# Altium schematic symbol library Mach Master.SCHLIB: 42 symbols
Pins are listed as number, name and electrical type; pins without a type are passive.

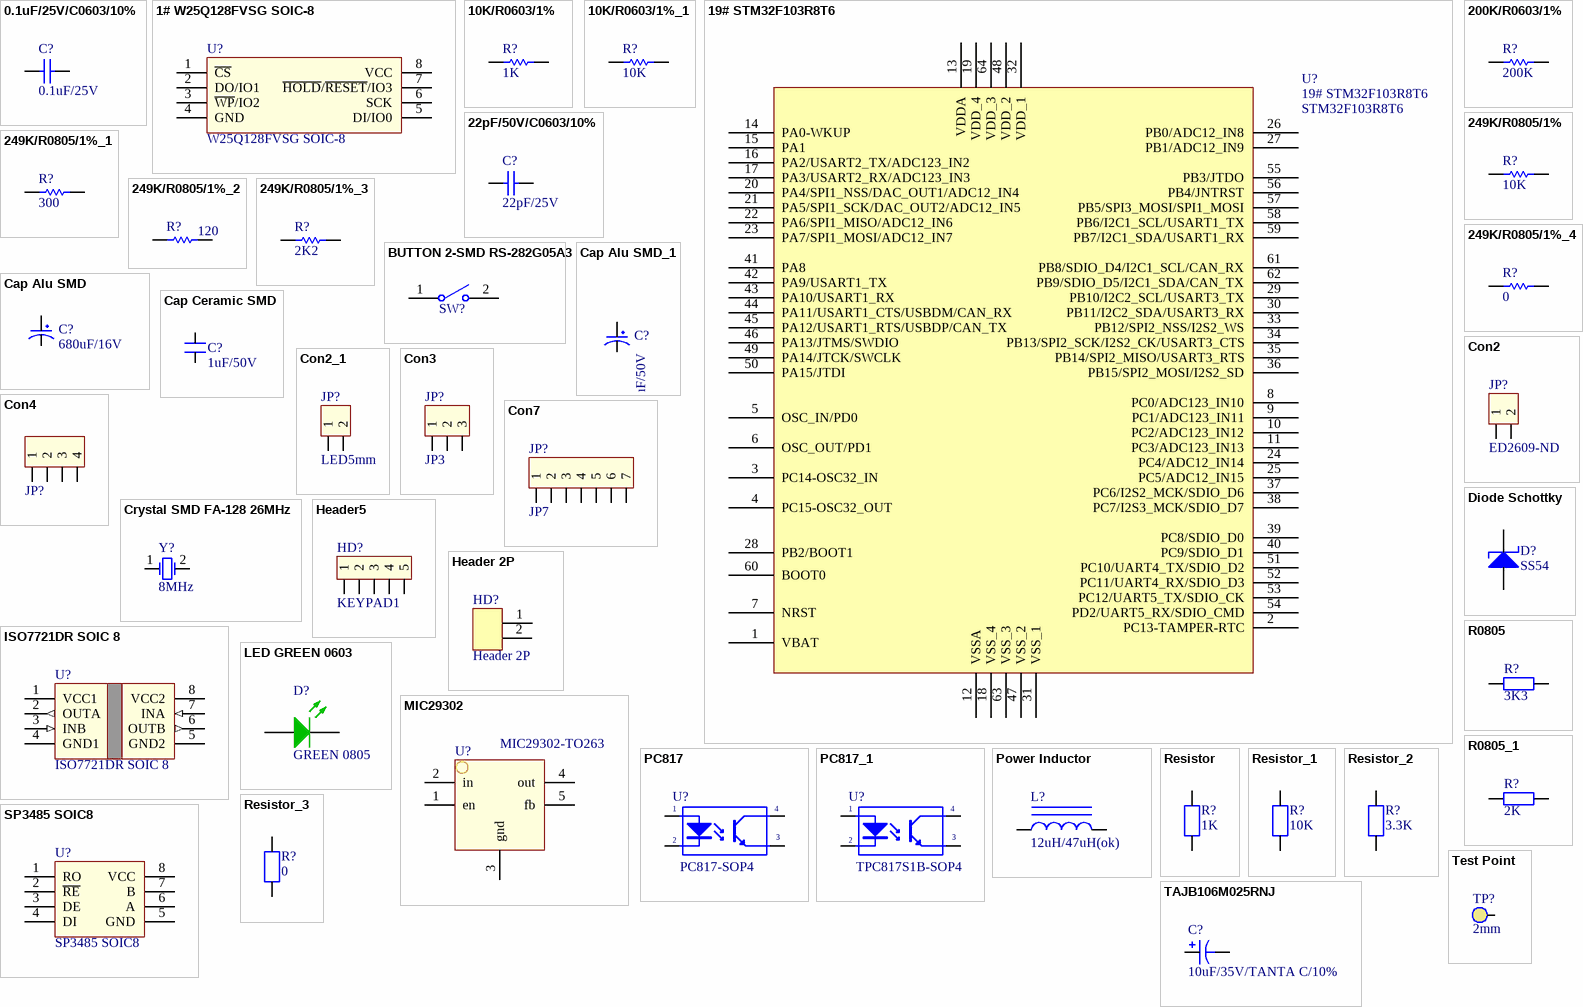
[diagram p0: symbols 0.1uF/25V/C0603/10% to Test Point]

## 0.1uF/25V/C0603/10%
designator C?, comment 0.1uF/25V
CAP CER 0.1UF 25V 10% X7R 0603; Manufacturer: Murata Electronics North America; Manufacturer Part Number: GRM188R71E104KA01D; Capacitance: 0.1µF; RoHS: RoHS Compliant; Category: Capacitors; Packaging: Cut Tape (CT); Tolerance: ±10%; Voltage - Rated: 25V; Temperature Coefficient: X7R; Mounting Type: Surface Mount, MLCC; Operating Temperature: -55°C ~ 125°C; Applications: General Purpose; Ratings: -; Package / Case: 0603 (1608 Metric); Size / Dimension: 0.063" L x 0.031" W (1.60mm x 0.80mm); Height - Seated (Max): -; Thickness (Max): 0.035" (0.90mm); Lead Spacing: -; Features: -; Lead Style: -; ComponentLink1URL: http://www.murata.com/~/media/webrenewal/support/library/catalog/products/capacitor/mlcc/c02e.ashx; ComponentLink1Description: http://www.murata.com/~/media/webrenewal/support/library/catalog/products/capacitor/mlcc/c02e.ashx; Supplier 1: Digi-Key; Supplier Part Number 1: 490-1524-1-ND
footprint Cap Ceramic 0805 SMD (Reflow Soldering)
pins: 1, 2

## 1# W25Q128FVSG SOIC-8
designator U?, comment W25Q128FVSG SOIC-8
footprint 1# W25Q128FV - 8SOIC 5.38mm (8-Pin SOIC 208 mil)
pins: 1 ~{CS}, 2 DO/IO1, 3 ~{WP}/IO2, 4 GND, 5 DI/IO0, 6 SCK, 7 ~{HOLD}/~{RESET}/IO3, 8 VCC

## 10K/R0603/1%
designator R?, comment 1K
1 kOhms ±1% 0.125W, 1/8W Chip Resistor 0805 (2012 Metric) Automotive AEC-Q200 Thick Film; Resistance (Ohms): 10k; Power (Watts): 0.1W, 1/10W; RoHS: RoHS Compliant; Category: Resistors; Features: Moisture Resistant; Operating Temperature: -55°C ~ 155°C; Package / Case: 0603 (1608 Metric); Supplier Device Package: 0603; Size / Dimension: 0.063" L x 0.031" W (1.60mm x 0.80mm); Height: 0.022" (0.55mm); Number of Terminations: 2; ComponentLink1URL: http://www.yageo.com/NewPortal/yageodocoutput?fileName=/pdf/R-Chip/PYu-RC_Group_51_RoHS_L_3.pdf; ComponentLink1Description: http://www.yageo.com/NewPortal/yageodocoutput?fileName=/pdf/R-Chip/PYu-RC_Group_51_RoHS_L_3.pdf; Digikey: 541-1.00KCCT-ND; Buy Link: https://www.thegioiic.com/products?utf8=%E2%9C%93&search=%C4%91i%E1%BB%87n+tr%E1%BB%9F+0805
footprint Res 0805 SMD (Reflow Soldering)
pins: 1, 2

## 10K/R0603/1%_1
designator R?, comment 10K
RES SMD 10K OHM 1% 1/10W 0603; Manufacturer: Yageo; Manufacturer Part Number: RC0603FR-0710KL; Power (Watts): 0.1W, 1/10W; Temperature Coefficient: ±100ppm/°C; Supplier 1: Digi-Key; RoHS: RoHS Compliant; Category: Resistors; Stock 1: 11440000; Pricing 1: 5000=0.00167, 10000=0.00145, 25000=0.00128, 50000=0.00117, 125000=0.00115 (USD); Packaging: Tape & Reel (TR); Resistance (Ohms): 10k; Tolerance: ±1%; Composition: Thick Film; Features: Moisture Resistant; Operating Temperature: -55°C ~ 155°C; Package / Case: 0603 (1608 Metric); Supplier Device Package: 0603; Size / Dimension: 0.063" L x 0.031" W (1.60mm x 0.80mm); Height: 0.022" (0.55mm); Number of Terminations: 2; ComponentLink1URL: http://www.yageo.com/NewPortal/yageodocoutput?fileName=/pdf/R-Chip/PYu-RC_Group_51_RoHS_L_3.pdf; ComponentLink1Description: http://www.yageo.com/NewPortal/yageodocoutput?fileName=/pdf/R-Chip/PYu-RC_Group_51_RoHS_L_3.pdf; Supplier Part Number 1: 311-10.0KHRTR-ND; Buy Link: https://www.thegioiic.com/products?utf8=%E2%9C%93&search=%C4%91i%E1%BB%87n+tr%E1%BB%9F+0805
footprint Res 0603 SMD (Reflow Soldering)
footprint Res 0805 SMD (Reflow Soldering)
pins: 1, 2

## 19# STM32F103R8T6
designator U?  Supplier Part Number 1: STM32F103R8T6
STM32 ARM-based 32-bit MCU with ARM 32-bit Cortex-M3 Microcontroller, 64 Kbytes Flash, 64-pin LQFP, Industrial Temperature; UART: 5; I2C: 2; SPI/I2S: 3; USB 2.0: 1; ARM Core: Cortex M3; Published: 30-May-2008; DatasheetVersion: rev6, Mar-2008; PackageVersion: Mar-2008; PackageReference: LQFP64; Publisher: Altium Limited; PackageDescription: 64-Pin Low-Profile Quad Flat Pack, 10 x 10 mm Body, 0.5 mm Pitch (LQFP64); ComponentLink1Description: Manufacturer Link; ComponentLink1URL: www.st.com/stm32; ComponentLink2Description: Datasheet; ComponentLink2URL: http://www.st.com/stonline/products/literature/ds/13587.pdf; CAN 2.0: 1; ADC: 3; DAC: 2; Case/Package: LQFP - 64; Supplier 1: Future Electronics; Buy Link: https://thegioiic.com/products/stm32f103r8t6
footprint 19# STMF103R8T6 (LQFP64 – 10 x 10 mm 64 pin)
pins: 1 VBAT (power), 2 PC13-TAMPER-RTC, 3 PC14-OSC32_IN, 4 PC15-OSC32_OUT, 5 OSC_IN/PD0, 6 OSC_OUT/PD1, 7 NRST, 8 PC0/ADC123_IN10, 9 PC1/ADC123_IN11, 10 PC2/ADC123_IN12, 11 PC3/ADC123_IN13, 12 VSSA (power), 13 VDDA (power), 14 PA0-WKUP, 15 PA1, 16 PA2/USART2_TX/ADC123_IN2, 17 PA3/USART2_RX/ADC123_IN3, 18 VSS_4 (power), 19 VDD_4 (power), 20 PA4/SPI1_NSS/DAC_OUT1/ADC12_IN4, 21 PA5/SPI1_SCK/DAC_OUT2/ADC12_IN5, 22 PA6/SPI1_MISO/ADC12_IN6, 23 PA7/SPI1_MOSI/ADC12_IN7, 24 PC4/ADC12_IN14, 25 PC5/ADC12_IN15, 26 PB0/ADC12_IN8, 27 PB1/ADC12_IN9, 28 PB2/BOOT1, 29 PB10/I2C2_SCL/USART3_TX, 30 PB11/I2C2_SDA/USART3_RX, 31 VSS_1 (power), 32 VDD_1 (power), 33 PB12/SPI2_NSS/I2S2_WS, 34 PB13/SPI2_SCK/I2S2_CK/USART3_CTS, 35 PB14/SPI2_MISO/USART3_RTS, 36 PB15/SPI2_MOSI/I2S2_SD, 37 PC6/I2S2_MCK/SDIO_D6, 38 PC7/I2S3_MCK/SDIO_D7, 39 PC8/SDIO_D0, 40 PC9/SDIO_D1, 41 PA8, 42 PA9/USART1_TX, 43 PA10/USART1_RX, 44 PA11/USART1_CTS/USBDM/CAN_RX, 45 PA12/USART1_RTS/USBDP/CAN_TX, 46 PA13/JTMS/SWDIO, 47 VSS_2 (power), 48 VDD_2 (power), 49 PA14/JTCK/SWCLK, 50 PA15/JTDI, 51 PC10/UART4_TX/SDIO_D2, 52 PC11/UART4_RX/SDIO_D3, 53 PC12/UART5_TX/SDIO_CK, 54 PD2/UART5_RX/SDIO_CMD, 55 PB3/JTDO, 56 PB4/JNTRST, 57 PB5/SPI3_MOSI/SPI1_MOSI, 58 PB6/I2C1_SCL/USART1_TX, 59 PB7/I2C1_SDA/USART1_RX, 60 BOOT0, 61 PB8/SDIO_D4/I2C1_SCL/CAN_RX, 62 PB9/SDIO_D5/I2C1_SDA/CAN_TX, 63 VSS_3 (power), 64 VDD_3 (power)

## 22pF/50V/C0603/10%
designator C?, comment 22pF/25V
CAP CER 22PF 50V NP0 0603; Manufacturer: Kemet; Manufacturer Part Number: C0603C220K5GACTU; Tolerance: ±10%; Temperature Coefficient: C0G, NP0; RoHS: RoHS Compliant; Category: Capacitors; Packaging: Digi-Reel®; Capacitance: 22pF; Voltage - Rated: 50V; Mounting Type: Surface Mount, MLCC; Operating Temperature: -55°C ~ 125°C; Applications: General Purpose; Ratings: -; Package / Case: 0603 (1608 Metric); Size / Dimension: 0.063" L x 0.031" W (1.60mm x 0.80mm); Height - Seated (Max): -; Thickness (Max): 0.034" (0.87mm); Lead Spacing: -; Features: -; Lead Style: -; ComponentLink1URL: http://www.kemet.com/docfinder?Partnumber=C0603C220K5GACTU; ComponentLink1Description: http://www.kemet.com/docfinder?Partnumber=C0603C220K5GACTU; Supplier 1: Digi-Key; Supplier Part Number 1: 399-7875-1-ND
footprint Cap Ceramic 0805 SMD (Reflow Soldering)
pins: 1, 2

## 200K/R0603/1%
designator R?, comment 200K
RES SMD 200K OHM 1% 1/10W 0603; Manufacturer: Yageo; Manufacturer Part Number: RC0603FR-07200KL; Power (Watts): 0.1W, 1/10W; Temperature Coefficient: ±100ppm/°C; Supplier 1: Digi-Key; RoHS: RoHS Compliant; Category: Resistors; Stock 1: 924437; Pricing 1: 1=0.1, 10=0.015, 100=0.006, 1000=0.00268, 2500=0.00233 (USD); Packaging: Cut Tape (CT); Part Status: Active; Tolerance: ±1%; Composition: Thick Film; Features: Moisture Resistant; Operating Temperature: -55°C ~ 155°C; Package / Case: 0603 (1608 Metric); Supplier Device Package: 0603; Size / Dimension: 0.063" L x 0.031" W (1.60mm x 0.80mm); Height - Seated (Max): 0.022" (0.55mm); Failure Rate: -; ComponentLink1URL: http://www.yageo.com/documents/recent/PYu-RC_Group_51_RoHS_L_7.pdf; ComponentLink1Description: http://www.yageo.com/documents/recent/PYu-RC_Group_51_RoHS_L_7.pdf; Supplier Part Number 1: 311-200KHRCT-ND
footprint Res 0805 SMD (Reflow Soldering)
pins: 1, 2

## 249K/R0805/1%
designator R?, comment 10K
RES SMD 249K OHM 1% 1/10W 0805; Manufacturer: Yageo; Manufacturer Part Number: RC0603FR-07249KL; Power (Watts): 0.1W, 1/10W; Temperature Coefficient: ±100ppm/°C; Supplier 1: Digi-Key; RoHS: RoHS Compliant; Category: Resistors; Stock 1: 370515; Pricing 1: 1=0.1, 10=0.015, 100=0.006, 1000=0.00268, 2500=0.00233 (USD); Packaging: Cut Tape (CT); Part Status: Active; Tolerance: ±1%; Composition: Thick Film; Features: Moisture Resistant; Operating Temperature: -55°C ~ 155°C; Package / Case: 0603 (1608 Metric); Supplier Device Package: 0603; Size / Dimension: 0.063" L x 0.032" W (1.60mm x 0.80mm); Height - Seated (Max): 0.022" (0.55mm); Failure Rate: -; ComponentLink1URL: http://www.yageo.com/documents/recent/PYu-RC_Group_51_RoHS_L_8.pdf; ComponentLink1Description: http://www.yageo.com/documents/recent/PYu-RC_Group_51_RoHS_L_8.pdf; Buy Link: https://www.thegioiic.com/products?utf8=%E2%9C%93&search=%C4%91i%E1%BB%87n+tr%E1%BB%9F+0805
footprint Res 0805 SMD (Reflow Soldering)
pins: 1, 2

## 249K/R0805/1%_1
designator R?, comment 300
RES SMD 249K OHM 1% 1/10W 0805; Manufacturer: Yageo; Manufacturer Part Number: RC0603FR-07249KL; Power (Watts): 0.1W, 1/10W; Temperature Coefficient: ±100ppm/°C; Supplier 1: Digi-Key; RoHS: RoHS Compliant; Category: Resistors; Stock 1: 370515; Pricing 1: 1=0.1, 10=0.015, 100=0.006, 1000=0.00268, 2500=0.00233 (USD); Packaging: Cut Tape (CT); Part Status: Active; Tolerance: ±1%; Composition: Thick Film; Features: Moisture Resistant; Operating Temperature: -55°C ~ 155°C; Package / Case: 0603 (1608 Metric); Supplier Device Package: 0603; Size / Dimension: 0.063" L x 0.032" W (1.60mm x 0.80mm); Height - Seated (Max): 0.022" (0.55mm); Failure Rate: -; ComponentLink1URL: http://www.yageo.com/documents/recent/PYu-RC_Group_51_RoHS_L_8.pdf; ComponentLink1Description: http://www.yageo.com/documents/recent/PYu-RC_Group_51_RoHS_L_8.pdf
footprint Res 0805 SMD (Reflow Soldering)
pins: 1, 2

## 249K/R0805/1%_2
designator R?, comment 120
RES SMD 249K OHM 1% 1/10W 0805; Manufacturer: Yageo; Manufacturer Part Number: RC0603FR-07249KL; Power (Watts): 0.1W, 1/10W; Temperature Coefficient: ±100ppm/°C; Supplier 1: Digi-Key; RoHS: RoHS Compliant; Category: Resistors; Stock 1: 370515; Pricing 1: 1=0.1, 10=0.015, 100=0.006, 1000=0.00268, 2500=0.00233 (USD); Packaging: Cut Tape (CT); Part Status: Active; Tolerance: ±1%; Composition: Thick Film; Features: Moisture Resistant; Operating Temperature: -55°C ~ 155°C; Package / Case: 0603 (1608 Metric); Supplier Device Package: 0603; Size / Dimension: 0.063" L x 0.032" W (1.60mm x 0.80mm); Height - Seated (Max): 0.022" (0.55mm); Failure Rate: -; ComponentLink1URL: http://www.yageo.com/documents/recent/PYu-RC_Group_51_RoHS_L_8.pdf; ComponentLink1Description: http://www.yageo.com/documents/recent/PYu-RC_Group_51_RoHS_L_8.pdf
footprint Res 0805 SMD (Reflow Soldering)
pins: 1, 2

## 249K/R0805/1%_3
designator R?, comment 2K2
RES SMD 249K OHM 1% 1/10W 0805; Manufacturer: Yageo; Manufacturer Part Number: RC0603FR-07249KL; Power (Watts): 0.1W, 1/10W; Temperature Coefficient: ±100ppm/°C; Supplier 1: Digi-Key; RoHS: RoHS Compliant; Category: Resistors; Stock 1: 370515; Pricing 1: 1=0.1, 10=0.015, 100=0.006, 1000=0.00268, 2500=0.00233 (USD); Packaging: Cut Tape (CT); Part Status: Active; Tolerance: ±1%; Composition: Thick Film; Features: Moisture Resistant; Operating Temperature: -55°C ~ 155°C; Package / Case: 0603 (1608 Metric); Supplier Device Package: 0603; Size / Dimension: 0.063" L x 0.032" W (1.60mm x 0.80mm); Height - Seated (Max): 0.022" (0.55mm); Failure Rate: -; ComponentLink1URL: http://www.yageo.com/documents/recent/PYu-RC_Group_51_RoHS_L_8.pdf; ComponentLink1Description: http://www.yageo.com/documents/recent/PYu-RC_Group_51_RoHS_L_8.pdf
footprint Res 0805 SMD (Reflow Soldering)
pins: 1, 2

## 249K/R0805/1%_4
designator R?, comment 0
RES SMD 249K OHM 1% 1/10W 0805; Manufacturer: Yageo; Manufacturer Part Number: RC0603FR-07249KL; Power (Watts): 0.1W, 1/10W; Temperature Coefficient: ±100ppm/°C; Supplier 1: Digi-Key; RoHS: RoHS Compliant; Category: Resistors; Stock 1: 370515; Pricing 1: 1=0.1, 10=0.015, 100=0.006, 1000=0.00268, 2500=0.00233 (USD); Packaging: Cut Tape (CT); Part Status: Active; Tolerance: ±1%; Composition: Thick Film; Features: Moisture Resistant; Operating Temperature: -55°C ~ 155°C; Package / Case: 0603 (1608 Metric); Supplier Device Package: 0603; Size / Dimension: 0.063" L x 0.032" W (1.60mm x 0.80mm); Height - Seated (Max): 0.022" (0.55mm); Failure Rate: -; ComponentLink1URL: http://www.yageo.com/documents/recent/PYu-RC_Group_51_RoHS_L_8.pdf; ComponentLink1Description: http://www.yageo.com/documents/recent/PYu-RC_Group_51_RoHS_L_8.pdf
footprint Res 0805 SMD (Reflow Soldering)
pins: 1, 2

## BUTTON 2-SMD RS-282G05A3
designator SW?, comment 3x4x2.5 2Pin SMD  (value not drawn)
Manufacturer: C&K Components; Manufacturer Part Number: RS-282G05A3-SM RT; Circuit: SPST-NO; Switch Function: Off-Mom; Contact Rating @ Voltage: 0.05A @ 12VDC; Actuator Type: Rectangular Button; Actuator Height off PCB, from Pins: 2.50mm; Actuator Orientation: Top Actuated; Outline: 6.00mm x 3.60mm; Illumination: Non-Illuminated; Operating Force: 250gf; Actuator Material: Polyamide (PA), Nylon; Switch Travel: 0.25mm; Mechanical Life: 50,000 Cycles; RoHS: RoHS Compliant; Category: Switches; Packaging: Cut Tape (CT); Part Status: Active; Mounting Type: Surface Mount; Termination Style: Gull Wing; Illumination Voltage (Nominal): -; Illumination Type, Color: -; Ingress Protection: -; Features: -; Operating Temperature: -; ComponentLink1URL: http://media.digikey.com/pdf/Data%20Sheets/C&K/RS-282G05A-SM_RT.pdf; ComponentLink1Description: http://media.digikey.com/pdf/Data%20Sheets/C&K/RS-282G05A-SM_RT.pdf; Supplier 1: Digi-Key; Supplier Part Number 1: CKN10384CT-ND; Buy Link: https://thegioiic.com/products/nut-nhan-3x4x2-5-2pin-smd
footprint Button 3x4mm (SMD 3x4mm)
pins: 1 COMMON1, 2 NO1

## Cap Alu SMD
designator C?, comment 680uF/16V
footprint CAP ALU CASE G SMD
pins: 1, 2

## Cap Alu SMD_1
designator C?, comment 220uF/50V
Buy Link: https://www.thegioiic.com/products/tu-nhom-smd-220uf-50v-d10l10
footprint CAP ALU CASE G SMD
pins: 1, 2

## Cap Ceramic SMD
designator C?, comment 1uF/50V
Buy Link: https://www.thegioiic.com/products/tu-1uf-50v-0805
footprint Cap Ceramic 0805 SMD (Reflow Soldering)
pins: 1, 2

## Con2
designator JP?, comment ED2609-ND
2 Position Wire to Board Terminal Block Horizontal with Board 0.200" (5.08mm) Through Hole; Value: Connector 2; Digikey: ED2609-ND
footprint 2EDGR-5.08-02P (Terminal Block 2 Chân 5.08 Chân Cong 2EDG-5.08-2P-L)
pins: 1, 2

## Con2_1
designator JP?, comment LED5mm
Connector 2; Value: Connector 2
footprint CON2
pins: 1, 2

## Con3
designator JP?, comment JP3
Connector 3; Value: Connector 3
footprint 2EDGR-5.08-03P (Terminal Block 3 Chân 5.08 Chân Cong 3EDG-5.08-3P-L)
pins: 1, 2, 3

## Con4
designator JP?, comment PROGRAM  (value not drawn)
Connector 4; Value: Connector 4
footprint Header_4 (Connector DIP, 4Pin_2.54mm)
pins: 1, 2, 3, 4

## Con7
designator JP?, comment JP7
Connector 7; Value: Connector 7
footprint CON7
pins: 1, 2, 3, 4, 5, 6, 7

## Crystal SMD FA-128 26MHz
designator Y?, comment 8MHz
8MHz SMD; Value: 26MHz; ComponentLink1Description: Datasheet; ComponentLink1URL: D:\Dropbox\Datasheets\Passive Components\Crystals\HC49S.pdf; Unit Price: 0.0440
footprint CRYSTAL SMD (Crystal SMD)
pins: 1 OSC1, 2 OSC2

## Diode Schottky
designator D?, comment SS54
Buy Link: https://www.thegioiic.com/products/ss54-smc
footprint DO-214AB/SMC
pins: 1 A, 2 K

## Header5
designator HD?, comment KEYPAD1
Header 5; Creat by: VanDungEvn@Gmail.com
footprint CON5
pins: 1, 2, 3, 4, 5

## Header 2P
designator HD?
footprint Header Female 2P
footprint Header Male 2P
footprint JST 2P (Footprint not found)
footprint JUMPER 2 PIN SMD
footprint TERMINAL RA 2P
footprint 2EDGR-5.08-02P (Terminal Block 2 Chân 5.08 Chân Cong 2EDG-5.08-2P-L)
pins: 1, 2

## ISO7721DR SOIC 8
designator U?
ISO772x High-Speed, Robust EMC, Reinforced Dual-Channel Digital Isolators
footprint ISO7721D SOIC-8 10.9mm (SOIC-8 10.9mm)
pins: 1 VCC1, 2 OUTA (out), 3 INB (in), 4 GND1, 5 GND2, 6 OUTB (out), 7 INA (in), 8 VCC2

## LED GREEN 0603
designator D?, comment GREEN 0805
LED GREEN CLEAR 0603 SMD; Manufacturer: Lite-On Inc.; Manufacturer Part Number: LTST-C190KGKT; Lens Color: Colorless; Millicandela Rating: 35mcd; Lens Style/Size: Rectangle with Flat Top, 1.10mm x 0.80mm; Voltage - Forward (Vf) (Typ): 2V; Current - Test: 20mA; Viewing Angle: 130°; Wavelength - Dominant: 571nm; Wavelength - Peak: 574nm; RoHS: RoHS Compliant; Category: Optoelectronics; Packaging: Cut Tape (CT); Color: Green; Lens Transparency: Clear; Mounting Type: Surface Mount; Features: -; Package / Case: 0603 (1608 Metric); Supplier Device Package: *; Size / Dimension: 1.60mm L x 0.80mm W; Height (Max): 0.80mm; ComponentLink1URL: http://optoelectronics.liteon.com/upload/download/DS22-2000-074/S_110_LTST-C190KGKT.pdf; ComponentLink1Description: http://optoelectronics.liteon.com/upload/download/DS22-2000-074/S_110_LTST-C190KGKT.pdf; Supplier 1: Digi-Key; Supplier Part Number 1: 160-1435-1-ND; Buy Link: https://www.thegioiic.com/products/led-do-0805
footprint Led 0805G (Chip LED; Green; Body 2.0 x 1.3 mm (LxW typ))
pins: 1 A, 2 K

## MIC29302
designator U?, comment MIC29302-TO263
MIC29302 TO263 / High-Current Low-Dropout Regulators; Buy Link: https://thegioiic.com/products/mic29302
footprint MIC29302-TO263 (5 Lead TO263)
pins: 1 en, 2 in, 3 gnd, 4 out, 5 fb

## PC817
designator U?, comment PC817-SOP4
Optoisolator Transistor Output 5000Vrms 1 Channel 4-SOP; Digikey: TPC817S1BRAGCT-ND; BuyVN: https://banlinhkien.vn/goods-1134-pc817-el817-sop4-opto.html
footprint TPC817-4SOP (OPTOISO 5KV TRANS 4SOP)
pins: 1 A "Anode", 2 K "Cathode", 3 E "Emitter", 4 C "Collector"

## PC817_1
designator U?, comment TPC817S1B-SOP4
Optoisolator Transistor Output 5000Vrms 1 Channel 4-SOP; Digikey: TPC817S1BRAGCT-ND
footprint TPC817-4SOP (OPTOISO 5KV TRANS 4SOP)
pins: 1 A "Anode", 2 K "Cathode", 3 E "Emitter", 4 C "Collector"

## Power Inductor
designator L?, comment 12uH/47uH(ok)
CDRH127; Buy Link: https://www.thegioiic.com/products/cuon-cam-12uh-rh127-smd-12x12x7
footprint POWER INDUCTOR
footprint POWER INDUCTOR
pins: 1, 2

## R0805
designator R?, comment 3K3
Resistor SMD 0805; Published: 8-Jun-2000; LatestRevisionDate: 17-Jul-2002; LatestRevisionNote: Re-released for DXP Platform.; PackageReference: AXIAL-0.4; Publisher: Altium Limited
simulation model RESISTOR (Resistor)
signal-integrity model Res
footprint DIEN TRO 0805 (Chip Resistor; Body 2.0 x 1.3 mm (LxW typ))
footprint Res 0805 SMD (Reflow Soldering)
pins: 1, 2

## R0805_1
designator R?, comment 2K
Resistor SMD 0805; Published: 8-Jun-2000; LatestRevisionDate: 17-Jul-2002; LatestRevisionNote: Re-released for DXP Platform.; PackageReference: AXIAL-0.4; Publisher: Altium Limited
simulation model RESISTOR (Resistor)
signal-integrity model Res
footprint DIEN TRO 0805 (Chip Resistor; Body 2.0 x 1.3 mm (LxW typ))
footprint Res 0805 SMD (Reflow Soldering)
pins: 1, 2

## Resistor
designator R?, comment 1K
Resistor; Buy Link: https://www.thegioiic.com/products?utf8=%E2%9C%93&search=%C4%91i%E1%BB%87n+tr%E1%BB%9F+0805
footprint Res 0603 SMD (Reflow Soldering)
footprint Res 0805 SMD (Reflow Soldering)
pins: 1, 2

## Resistor_1
designator R?, comment 10K
Resistor; Buy Link: https://www.thegioiic.com/products?utf8=%E2%9C%93&search=%C4%91i%E1%BB%87n+tr%E1%BB%9F+0805
footprint Res 0805 SMD (Reflow Soldering)
pins: 1, 2

## Resistor_2
designator R?, comment 3.3K
Resistor; Buy Link: https://www.thegioiic.com/products?utf8=%E2%9C%93&search=%C4%91i%E1%BB%87n+tr%E1%BB%9F+0805
footprint Res 0805 SMD (Reflow Soldering)
pins: 1, 2

## Resistor_3
designator R?, comment 0
Resistor; Buy Link: https://www.thegioiic.com/products?utf8=%E2%9C%93&search=%C4%91i%E1%BB%87n+tr%E1%BB%9F+0805
footprint Res 0603 SMD (Reflow Soldering)
footprint Res 0805 SMD (Reflow Soldering)
pins: 1, 2

## SP3485 SOIC8
designator U?
footprint SP3485 SOIC-8 3.9mm (8-Pin SOIC 3.9mm Width)
pins: 1 RO, 2 ~{RE}, 3 DE, 4 DI, 5 GND, 6 A, 7 B, 8 VCC

## TAJB106M025RNJ
designator C?, comment 10uF/35V/TANTA C/10%
Tantalum Capacitors - Solid SMD 25v 10uF 20%Tol Code C; Manufacturer: Kyocera AVX; Manufacturer Part Number: TAJB106M025RNJ; Tolerance: 20%; ESR (Equivalent Series Resistance): 2.5R; Leakage Current: 2.5uA; Polarity: Polar; Dissipation Factor: 6%; Supplier 1: Digi-Key; Stock 1: 10615; Pricing 1: 1=0.74, 10=0.524, 100=0.3453, 500=0.2558, 1000=0.2174 (USD); Mount: Surface Mount; Case/Package: 1210; Weight: 0.000564oz; Case Code (Metric): 3528; Case Code (Imperial): 1210; Min Operating Temperature: -55°C; Max Operating Temperature: 125°C; Packaging: Tape and Reel; Capacitance: 10uF; Voltage Rating: 25V; Package Quantity: 2000; Termination: SMD/SMT; Voltage Rating (DC): 25V; Features: General Purpose; Length: 3.5mm; Height: 2.1mm; Width: 0.11inch; Height - Seated (Max): 0.083inch; Depth: 2.8mm; Lead Free: Lead Free; Supplier Part Number 1: 478-8887-1-ND; Buy Link: https://banlinhkien.com/tu-tantalum-106v10uf-35v-smd6032-p6650491.html
footprint CAP TANT CASE C SMD
pins: 1, 2

## Test Point
designator TP?, comment 2mm
Test Point SMD
footprint Test Point 2mm
pins: 1

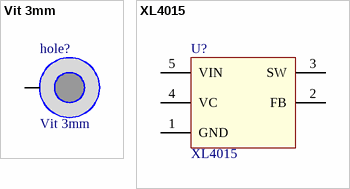
[diagram p1: symbols Vit 3mm to XL4015]

## Vit 3mm
designator hole?
footprint Screw 3 small (Hole 3mm, outline 5mm)
pins: 1 hole

## XL4015
designator U?
TO-263 5P; Buy Link: https://thegioiic.com/products/xl4015
footprint TO-263-5P (LM2596-5.0 SMD)
pins: 1 GND, 2 FB, 3 SW, 4 VC, 5 VIN